# Altium schematic symbol library analog_gsm.SchLib: 2 symbols
Pins are listed as number, name and electrical type; pins without a type are passive.

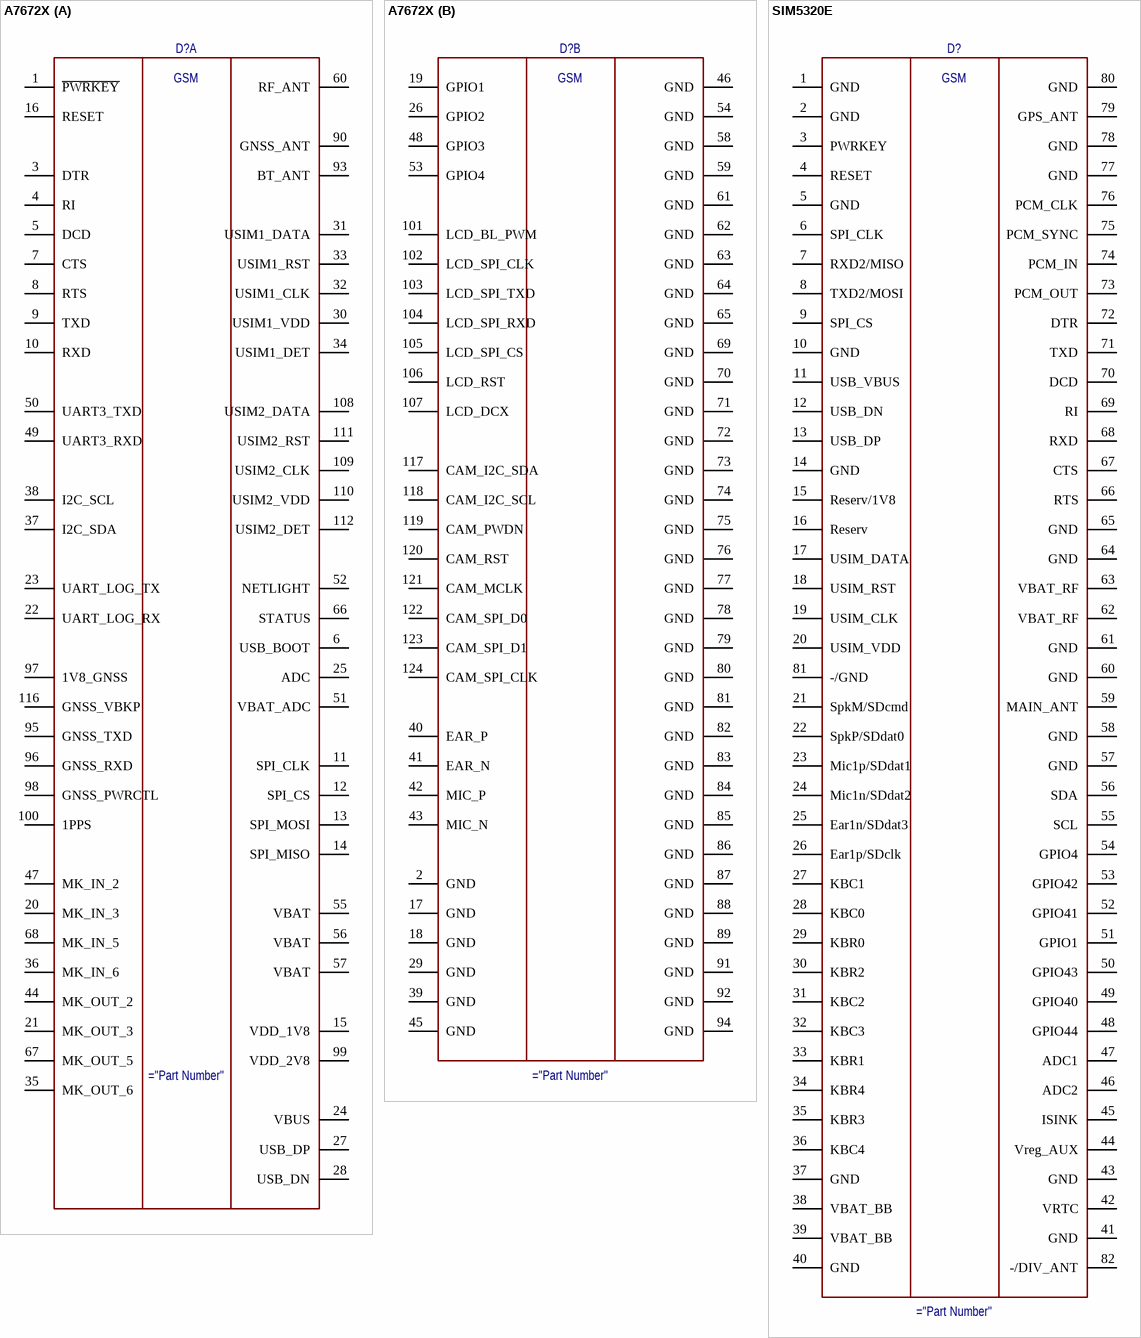
[diagram p0: symbols A7672X to SIM5320E]

## A7672X
designator D?
LPWA Module LTE Cat 1
part A pins: 1 ~{PWRKEY}, 3 DTR, 4 RI, 5 DCD, 6 USB_BOOT, 7 CTS, 8 RTS, 9 TXD, 10 RXD, 11 SPI_CLK, 12 SPI_CS, 13 SPI_MOSI, 14 SPI_MISO, 15 VDD_1V8, 16 RESET, 20 MK_IN_3, 21 MK_OUT_3, 22 UART_LOG_RX, 23 UART_LOG_TX, 24 VBUS, 25 ADC, 27 USB_DP, 28 USB_DN, 30 USIM1_VDD, 31 USIM1_DATA, 32 USIM1_CLK, 33 USIM1_RST, 34 USIM1_DET, 35 MK_OUT_6, 36 MK_IN_6, 37 I2C_SDA, 38 I2C_SCL, 44 MK_OUT_2, 47 MK_IN_2, 49 UART3_RXD, 50 UART3_TXD, 51 VBAT_ADC, 52 NETLIGHT, 55 VBAT, 56 VBAT, 57 VBAT, 60 RF_ANT, 66 STATUS, 67 MK_OUT_5, 68 MK_IN_5, 90 GNSS_ANT, 93 BT_ANT, 95 GNSS_TXD, 96 GNSS_RXD, 97 1V8_GNSS, 98 GNSS_PWRCTL, 99 VDD_2V8, 100 1PPS, 108 USIM2_DATA, 109 USIM2_CLK, 110 USIM2_VDD, 111 USIM2_RST, 112 USIM2_DET, 113 NC hidden, 114 NC hidden, 115 NC hidden, 116 GNSS_VBKP
part B pins: 2 GND, 17 GND, 18 GND, 19 GPIO1, 26 GPIO2, 29 GND, 39 GND, 40 EAR_P, 41 EAR_N, 42 MIC_P, 43 MIC_N, 45 GND, 46 GND, 48 GPIO3, 53 GPIO4, 54 GND, 58 GND, 59 GND, 61 GND, 62 GND, 63 GND, 64 GND, 65 GND, 69 GND, 70 GND, 71 GND, 72 GND, 73 GND, 74 GND, 75 GND, 76 GND, 77 GND, 78 GND, 79 GND, 80 GND, 81 GND, 82 GND, 83 GND, 84 GND, 85 GND, 86 GND, 87 GND, 88 GND, 89 GND, 91 GND, 92 GND, 94 GND, 101 LCD_BL_PWM, 102 LCD_SPI_CLK, 103 LCD_SPI_TXD, 104 LCD_SPI_RXD, 105 LCD_SPI_CS, 106 LCD_RST, 107 LCD_DCX, 117 CAM_I2C_SDA, 118 CAM_I2C_SCL, 119 CAM_PWDN, 120 CAM_RST, 121 CAM_MCLK, 122 CAM_SPI_D0, 123 CAM_SPI_D1, 124 CAM_SPI_CLK
part A text: GSM
part B text: GSM

## SIM5320E
designator D?
GSM Module
pins: 1 GND, 2 GND, 3 PWRKEY, 4 RESET, 5 GND, 6 SPI_CLK, 7 RXD2/MISO, 8 TXD2/MOSI, 9 SPI_CS, 10 GND, 11 USB_VBUS, 12 USB_DN, 13 USB_DP, 14 GND, 15 Reserv/1V8, 16 Reserv, 17 USIM_DATA, 18 USIM_RST, 19 USIM_CLK, 20 USIM_VDD, 21 SpkM/SDcmd, 22 SpkP/SDdat0, 23 Mic1p/SDdat1, 24 Mic1n/SDdat2, 25 Ear1n/SDdat3, 26 Ear1p/SDclk, 27 KBC1, 28 KBC0, 29 KBR0, 30 KBR2, 31 KBC2, 32 KBC3, 33 KBR1, 34 KBR4, 35 KBR3, 36 KBC4, 37 GND, 38 VBAT_BB, 39 VBAT_BB, 40 GND, 41 GND, 42 VRTC, 43 GND, 44 Vreg_AUX, 45 ISINK, 46 ADC2, 47 ADC1, 48 GPIO44, 49 GPIO40, 50 GPIO43, 51 GPIO1, 52 GPIO41, 53 GPIO42, 54 GPIO4, 55 SCL, 56 SDA, 57 GND, 58 GND, 59 MAIN_ANT, 60 GND, 61 GND, 62 VBAT_RF, 63 VBAT_RF, 64 GND, 65 GND, 66 RTS, 67 CTS, 68 RXD, 69 RI, 70 DCD, 71 TXD, 72 DTR, 73 PCM_OUT, 74 PCM_IN, 75 PCM_SYNC, 76 PCM_CLK, 77 GND, 78 GND, 79 GPS_ANT, 80 GND, 81 -/GND, 82 -/DIV_ANT
text: GSM